# EAGLE library part XC3S1400A-FT256 (library xess)
Xilinx Spartan 3A 1400K-gate FPGA in FT256 package
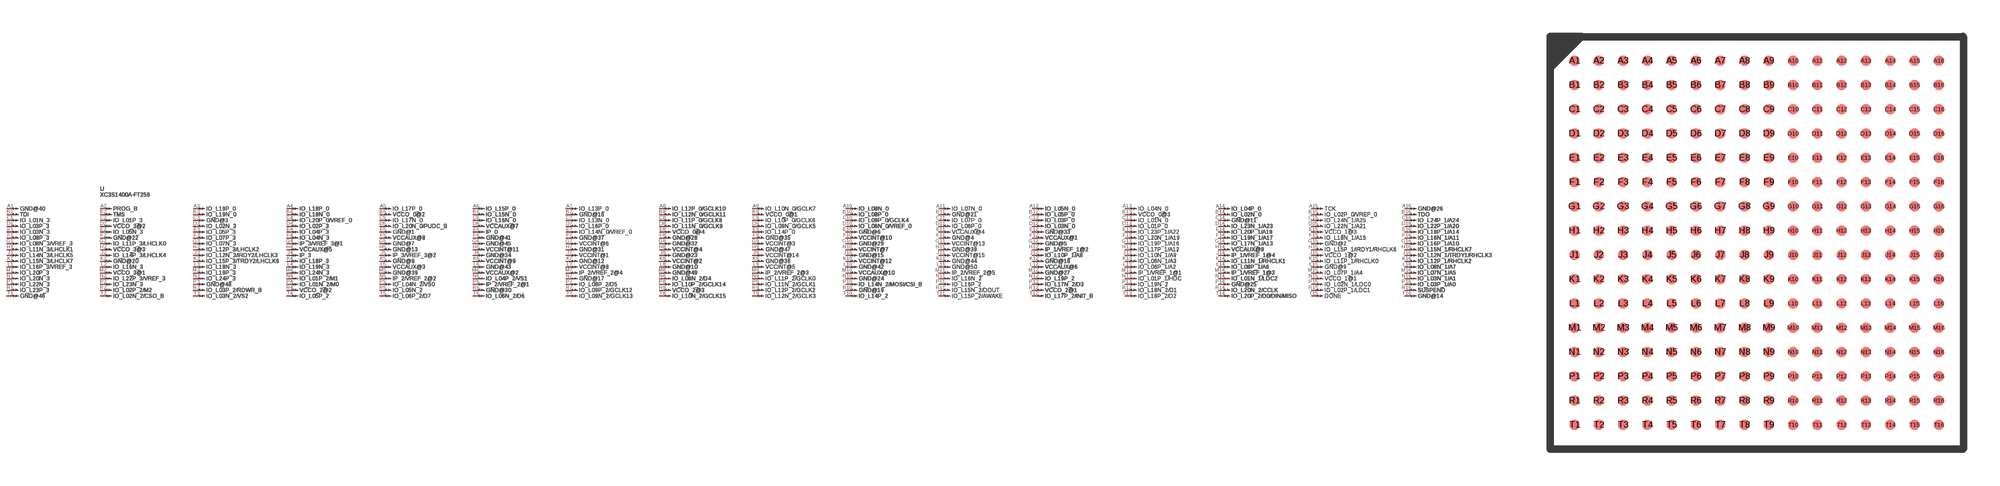
[diagram p133: symbol with the pads of XILINX-FT256; footprint XILINX-FT256]

Designator prefix U; gates PART=PV_GATE GND@40=PIN_GATE_IO PROG_B=PIN_GATE_IO IO_L19P_0=PIN_GATE_IO IO_L18P_0=PIN_GATE_IO IO_L17P_0=PIN_GATE_IO IO_L15P_0=PIN_GATE_IO IO_L13P_0=PIN_GATE_IO IO_L12P_0/GCLK10=PIN_GATE_IO IO_L10N_0/GCLK7=PIN_GATE_IO IO_L08N_0=PIN_GATE_IO IO_L07N_0=PIN_GATE_IO IO_L05N_0=PIN_GATE_IO IO_L04N_0=PIN_GATE_IO IO_L04P_0=PIN_GATE_IO TCK=PIN_GATE_IO GND@26=PIN_GATE_IO TDI=PIN_GATE_IO TMS=PIN_GATE_IO IO_L19N_0=PIN_GATE_IO IO_L18N_0=PIN_GATE_IO VCCO_0@2=PIN_GATE_IO IO_L15N_0=PIN_GATE_IO GND@16=PIN_GATE_IO IO_L12N_0/GCLK11=PIN_GATE_IO VCCO_0@1=PIN_GATE_IO IO_L08P_0=PIN_GATE_IO GND@21=PIN_GATE_IO IO_L05P_0=PIN_GATE_IO VCCO_0@3=PIN_GATE_IO IO_L02N_0=PIN_GATE_IO IO_L02P_0/VREF_0=PIN_GATE_IO TDO=PIN_GATE_IO IO_L01N_3=PIN_GATE_IO IO_L01P_3=PIN_GATE_IO GND@3=PIN_GATE_IO IO_L20P_0/VREF_0=PIN_GATE_IO IO_L17N_0=PIN_GATE_IO IO_L16N_0=PIN_GATE_IO IO_L13N_0=PIN_GATE_IO IO_L11P_0/GCLK8=PIN_GATE_IO IO_L10P_0/GCLK6=PIN_GATE_IO IO_L09P_0/GCLK4=PIN_GATE_IO IO_L07P_0=PIN_GATE_IO IO_L03P_0=PIN_GATE_IO IO_L01N_0=PIN_GATE_IO GND@11=PIN_GATE_IO IO_L24N_1/A25=PIN_GATE_IO IO_L24P_1/A24=PIN_GATE_IO IO_L03P_3=PIN_GATE_IO VCCO_3@2=PIN_GATE_IO IO_L02N_3=PIN_GATE_IO IO_L02P_3=PIN_GATE_IO IO_L20N_0/PUDC_B=PIN_GATE_IO VCCAUX@7=PIN_GATE_IO IO_L16P_0=PIN_GATE_IO IO_L11N_0/GCLK9=PIN_GATE_IO IO_L09N_0/GCLK5=PIN_GATE_IO IO_L06N_0/VREF_0=PIN_GATE_IO IO_L06P_0=PIN_GATE_IO IO_L03N_0=PIN_GATE_IO IO_L01P_0=PIN_GATE_IO IO_L23N_1/A23=PIN_GATE_IO IO_L22N_1/A21=PIN_GATE_IO IO_L22P_1/A20=PIN_GATE_IO IO_L03N_3=PIN_GATE_IO IO_L05N_3=PIN_GATE_IO IO_L05P_3=PIN_GATE_IO IO_L04P_3=PIN_GATE_IO GND@1=PIN_GATE_IO IP_0=PIN_GATE_IO IO_L14N_0/VREF_0=PIN_GATE_IO VCCO_0@4=PIN_GATE_IO IO_L14P_0=PIN_GATE_IO GND@6=PIN_GATE_IO VCCAUX@4=PIN_GATE_IO GND@33=PIN_GATE_IO IO_L23P_1/A22=PIN_GATE_IO IO_L20P_1/A18=PIN_GATE_IO VCCO_1@3=PIN_GATE_IO IO_L18P_1/A14=PIN_GATE_IO IO_L08P_3=PIN_GATE_IO GND@22=PIN_GATE_IO IO_L07P_3=PIN_GATE_IO IO_L04N_3=PIN_GATE_IO VCCAUX@8=PIN_GATE_IO GND@41=PIN_GATE_IO GND@37=PIN_GATE_IO GND@28=PIN_GATE_IO GND@35=PIN_GATE_IO VCCINT@10=PIN_GATE_IO GND@4=PIN_GATE_IO VCCAUX@1=PIN_GATE_IO IO_L20N_1/A19=PIN_GATE_IO IO_L19N_1/A17=PIN_GATE_IO IO_L18N_1/A15=PIN_GATE_IO IO_L16N_1/A11=PIN_GATE_IO IO_L08N_3/VREF_3=PIN_GATE_IO IO_L11P_3/LHCLK0=PIN_GATE_IO IO_L07N_3=PIN_GATE_IO IP_3/VREF_3@1=PIN_GATE_IO GND@7=PIN_GATE_IO GND@45=PIN_GATE_IO VCCINT@6=PIN_GATE_IO GND@32=PIN_GATE_IO VCCINT@3=PIN_GATE_IO GND@29=PIN_GATE_IO VCCINT@13=PIN_GATE_IO GND@5=PIN_GATE_IO IO_L19P_1/A16=PIN_GATE_IO IO_L17N_1/A13=PIN_GATE_IO GND@2=PIN_GATE_IO IO_L16P_1/A10=PIN_GATE_IO IO_L11N_3/LHCLK1=PIN_GATE_IO VCCO_3@3=PIN_GATE_IO IO_L12P_3/LHCLK2=PIN_GATE_IO VCCAUX@5=PIN_GATE_IO GND@13=PIN_GATE_IO VCCINT@11=PIN_GATE_IO GND@31=PIN_GATE_IO VCCINT@4=PIN_GATE_IO GND@47=PIN_GATE_IO VCCINT@7=PIN_GATE_IO GND@38=PIN_GATE_IO IP_1/VREF_1@2=PIN_GATE_IO IO_L17P_1/A12=PIN_GATE_IO VCCAUX@9=PIN_GATE_IO IO_L15P_1/IRDY1/RHCLK6=PIN_GATE_IO IO_L15N_1/RHCLK7=PIN_GATE_IO IO_L14N_3/LHCLK5=PIN_GATE_IO IO_L14P_3/LHCLK4=PIN_GATE_IO IO_L12N_3/IRDY2/LHCLK3=PIN_GATE_IO IP_3=PIN_GATE_IO IP_3/VREF_3@2=PIN_GATE_IO GND@34=PIN_GATE_IO VCCINT@1=PIN_GATE_IO GND@23=PIN_GATE_IO VCCINT@14=PIN_GATE_IO GND@15=PIN_GATE_IO VCCINT@15=PIN_GATE_IO IO_L10P_1/A8=PIN_GATE_IO IO_L10N_1/A9=PIN_GATE_IO IP_1/VREF_1@4=PIN_GATE_IO VCCO_1@2=PIN_GATE_IO IO_L12N_1/TRDY1/RHCLK3=PIN_GATE_IO IO_L15N_3/LHCLK7=PIN_GATE_IO GND@20=PIN_GATE_IO IO_L15P_3/TRDY2/LHCLK6=PIN_GATE_IO IO_L18P_3=PIN_GATE_IO GND@8=PIN_GATE_IO VCCINT@9=PIN_GATE_IO GND@12=PIN_GATE_IO VCCINT@2=PIN_GATE_IO GND@36=PIN_GATE_IO VCCINT@12=PIN_GATE_IO GND@44=PIN_GATE_IO GND@18=PIN_GATE_IO IO_L06N_1/A3=PIN_GATE_IO IO_L11N_1/RHCLK1=PIN_GATE_IO IO_L11P_1/RHCLK0=PIN_GATE_IO IO_L12P_1/RHCLK2=PIN_GATE_IO IO_L16P_3/VREF_3=PIN_GATE_IO IO_L16N_3=PIN_GATE_IO IO_L18N_3=PIN_GATE_IO IO_L19N_3=PIN_GATE_IO VCCAUX@3=PIN_GATE_IO GND@43=PIN_GATE_IO VCCINT@8=PIN_GATE_IO GND@10=PIN_GATE_IO VCCINT@5=PIN_GATE_IO GND@42=PIN_GATE_IO GND@50=PIN_GATE_IO VCCAUX@6=PIN_GATE_IO IO_L06P_1/A2=PIN_GATE_IO IO_L08P_1/A6=PIN_GATE_IO GND@9=PIN_GATE_IO IO_L08N_1/A7=PIN_GATE_IO IO_L20P_3=PIN_GATE_IO VCCO_3@1=PIN_GATE_IO IO_L19P_3=PIN_GATE_IO IO_L24N_3=PIN_GATE_IO GND@39=PIN_GATE_IO VCCAUX@2=PIN_GATE_IO IP_2/VREF_2@4=PIN_GATE_IO GND@49=PIN_GATE_IO IP_2/VREF_2@3=PIN_GATE_IO VCCAUX@10=PIN_GATE_IO IP_2/VREF_2@5=PIN_GATE_IO GND@27=PIN_GATE_IO IP_1/VREF_1@1=PIN_GATE_IO IP_1/VREF_1@3=PIN_GATE_IO IO_L07P_1/A4=PIN_GATE_IO IO_L07N_1/A5=PIN_GATE_IO IO_L20N_3=PIN_GATE_IO IO_L22P_3/VREF_3=PIN_GATE_IO IO_L24P_3=PIN_GATE_IO IO_L01P_2/M1=PIN_GATE_IO IP_2/VREF_2@2=PIN_GATE_IO IO_L04P_2/VS1=PIN_GATE_IO GND@17=PIN_GATE_IO IO_L08N_2/D4=PIN_GATE_IO IO_L11P_2/GCLK0=PIN_GATE_IO GND@24=PIN_GATE_IO IO_L16N_2=PIN_GATE_IO IO_L19P_2=PIN_GATE_IO IO_L01P_1/HDC=PIN_GATE_IO IO_L01N_1/LDC2=PIN_GATE_IO VCCO_1@1=PIN_GATE_IO IO_L03N_1/A1=PIN_GATE_IO IO_L22N_3=PIN_GATE_IO IO_L23N_3=PIN_GATE_IO GND@48=PIN_GATE_IO IO_L01N_2/M0=PIN_GATE_IO IO_L04N_2/VS0=PIN_GATE_IO IP_2/VREF_2@1=PIN_GATE_IO IO_L08P_2/D5=PIN_GATE_IO IO_L10P_2/GCLK14=PIN_GATE_IO IO_L11N_2/GCLK1=PIN_GATE_IO IO_L14N_2/MOSI/CSI_B=PIN_GATE_IO IO_L16P_2=PIN_GATE_IO IO_L17N_2/D3=PIN_GATE_IO IO_L19N_2=PIN_GATE_IO GND@25=PIN_GATE_IO IO_L02N_1/LDC0=PIN_GATE_IO IO_L03P_1/A0=PIN_GATE_IO IO_L23P_3=PIN_GATE_IO IO_L02P_2/M2=PIN_GATE_IO IO_L03P_2/RDWR_B=PIN_GATE_IO VCCO_2@2=PIN_GATE_IO IO_L05N_2=PIN_GATE_IO GND@30=PIN_GATE_IO IO_L09P_2/GCLK12=PIN_GATE_IO VCCO_2@3=PIN_GATE_IO IO_L12P_2/GCLK2=PIN_GATE_IO GND@19=PIN_GATE_IO IO_L15N_2/DOUT=PIN_GATE_IO VCCO_2@1=PIN_GATE_IO IO_L18N_2/D1=PIN_GATE_IO IO_L20N_2/CCLK=PIN_GATE_IO IO_L02P_1/LDC1=PIN_GATE_IO SUSPEND=PIN_GATE_IO GND@46=PIN_GATE_IO IO_L02N_2/CSO_B=PIN_GATE_IO IO_L03N_2/VS2=PIN_GATE_IO IO_L05P_2=PIN_GATE_IO IO_L06P_2/D7=PIN_GATE_IO IO_L06N_2/D6=PIN_GATE_IO IO_L09N_2/GCLK13=PIN_GATE_IO IO_L10N_2/GCLK15=PIN_GATE_IO IO_L12N_2/GCLK3=PIN_GATE_IO IO_L14P_2=PIN_GATE_IO IO_L15P_2/AWAKE=PIN_GATE_IO IO_L17P_2/INIT_B=PIN_GATE_IO IO_L18P_2/D2=PIN_GATE_IO IO_L20P_2/D0/DIN/MISO=PIN_GATE_IO DONE=PIN_GATE_IO GND@14=PIN_GATE_IO

## XC3S1400A-FT256  [XILINX-FT256]
A1  GND@40:1
A2  PROG_B:1
A3  IO_L19P_0:1
A4  IO_L18P_0:1
A5  IO_L17P_0:1
A6  IO_L15P_0:1
A7  IO_L13P_0:1
A8  IO_L12P_0/GCLK10:1
A9  IO_L10N_0/GCLK7:1
A10  IO_L08N_0:1
A11  IO_L07N_0:1
A12  IO_L05N_0:1
A13  IO_L04N_0:1
A14  IO_L04P_0:1
A15  TCK:1
A16  GND@26:1
B1  TDI:1
B2  TMS:1
B3  IO_L19N_0:1
B4  IO_L18N_0:1
B5  VCCO_0@2:1
B6  IO_L15N_0:1
B7  GND@16:1
B8  IO_L12N_0/GCLK11:1
B9  VCCO_0@1:1
B10  IO_L08P_0:1
B11  GND@21:1
B12  IO_L05P_0:1
B13  VCCO_0@3:1
B14  IO_L02N_0:1
B15  IO_L02P_0/VREF_0:1
B16  TDO:1
C1  IO_L01N_3:1
C2  IO_L01P_3:1
C3  GND@3:1
C4  IO_L20P_0/VREF_0:1
C5  IO_L17N_0:1
C6  IO_L16N_0:1
C7  IO_L13N_0:1
C8  IO_L11P_0/GCLK8:1
C9  IO_L10P_0/GCLK6:1
C10  IO_L09P_0/GCLK4:1
C11  IO_L07P_0:1
C12  IO_L03P_0:1
C13  IO_L01N_0:1
C14  GND@11:1
C15  IO_L24N_1/A25:1
C16  IO_L24P_1/A24:1
D1  IO_L03P_3:1
D2  VCCO_3@2:1
D3  IO_L02N_3:1
D4  IO_L02P_3:1
D5  IO_L20N_0/PUDC_B:1
D6  VCCAUX@7:1
D7  IO_L16P_0:1
D8  IO_L11N_0/GCLK9:1
D9  IO_L09N_0/GCLK5:1
D10  IO_L06N_0/VREF_0:1
D11  IO_L06P_0:1
D12  IO_L03N_0:1
D13  IO_L01P_0:1
D14  IO_L23N_1/A23:1
D15  IO_L22N_1/A21:1
D16  IO_L22P_1/A20:1
E1  IO_L03N_3:1
E2  IO_L05N_3:1
E3  IO_L05P_3:1
E4  IO_L04P_3:1
E5  GND@1:1
E6  IP_0:1
E7  IO_L14N_0/VREF_0:1
E8  VCCO_0@4:1
E9  IO_L14P_0:1
E10  GND@6:1
E11  VCCAUX@4:1
E12  GND@33:1
E13  IO_L23P_1/A22:1
E14  IO_L20P_1/A18:1
E15  VCCO_1@3:1
E16  IO_L18P_1/A14:1
F1  IO_L08P_3:1
F2  GND@22:1
F3  IO_L07P_3:1
F4  IO_L04N_3:1
F5  VCCAUX@8:1
F6  GND@41:1
F7  GND@37:1
F8  GND@28:1
F9  GND@35:1
F10  VCCINT@10:1
F11  GND@4:1
F12  VCCAUX@1:1
F13  IO_L20N_1/A19:1
F14  IO_L19N_1/A17:1
F15  IO_L18N_1/A15:1
F16  IO_L16N_1/A11:1
G1  IO_L08N_3/VREF_3:1
G2  IO_L11P_3/LHCLK0:1
G3  IO_L07N_3:1
G4  IP_3/VREF_3@1:1
G5  GND@7:1
G6  GND@45:1
G7  VCCINT@6:1
G8  GND@32:1
G9  VCCINT@3:1
G10  GND@29:1
G11  VCCINT@13:1
G12  GND@5:1
G13  IO_L19P_1/A16:1
G14  IO_L17N_1/A13:1
G15  GND@2:1
G16  IO_L16P_1/A10:1
H1  IO_L11N_3/LHCLK1:1
H2  VCCO_3@3:1
H3  IO_L12P_3/LHCLK2:1
H4  VCCAUX@5:1
H5  GND@13:1
H6  VCCINT@11:1
H7  GND@31:1
H8  VCCINT@4:1
H9  GND@47:1
H10  VCCINT@7:1
H11  GND@38:1
H12  IP_1/VREF_1@2:1
H13  IO_L17P_1/A12:1
H14  VCCAUX@9:1
H15  IO_L15P_1/IRDY1/RHCLK6:1
H16  IO_L15N_1/RHCLK7:1
J1  IO_L14N_3/LHCLK5:1
J2  IO_L14P_3/LHCLK4:1
J3  IO_L12N_3/IRDY2/LHCLK3:1
J4  IP_3:1
J5  IP_3/VREF_3@2:1
J6  GND@34:1
J7  VCCINT@1:1
J8  GND@23:1
J9  VCCINT@14:1
J10  GND@15:1
J11  VCCINT@15:1
J12  IO_L10P_1/A8:1
J13  IO_L10N_1/A9:1
J14  IP_1/VREF_1@4:1
J15  VCCO_1@2:1
J16  IO_L12N_1/TRDY1/RHCLK3:1
K1  IO_L15N_3/LHCLK7:1
K2  GND@20:1
K3  IO_L15P_3/TRDY2/LHCLK6:1
K4  IO_L18P_3:1
K5  GND@8:1
K6  VCCINT@9:1
K7  GND@12:1
K8  VCCINT@2:1
K9  GND@36:1
K10  VCCINT@12:1
K11  GND@44:1
K12  GND@18:1
K13  IO_L06N_1/A3:1
K14  IO_L11N_1/RHCLK1:1
K15  IO_L11P_1/RHCLK0:1
K16  IO_L12P_1/RHCLK2:1
L1  IO_L16P_3/VREF_3:1
L2  IO_L16N_3:1
L3  IO_L18N_3:1
L4  IO_L19N_3:1
L5  VCCAUX@3:1
L6  GND@43:1
L7  VCCINT@8:1
L8  GND@10:1
L9  VCCINT@5:1
L10  GND@42:1
L11  GND@50:1
L12  VCCAUX@6:1
L13  IO_L06P_1/A2:1
L14  IO_L08P_1/A6:1
L15  GND@9:1
L16  IO_L08N_1/A7:1
M1  IO_L20P_3:1
M2  VCCO_3@1:1
M3  IO_L19P_3:1
M4  IO_L24N_3:1
M5  GND@39:1
M6  VCCAUX@2:1
M7  IP_2/VREF_2@4:1
M8  GND@49:1
M9  IP_2/VREF_2@3:1
M10  VCCAUX@10:1
M11  IP_2/VREF_2@5:1
M12  GND@27:1
M13  IP_1/VREF_1@1:1
M14  IP_1/VREF_1@3:1
M15  IO_L07P_1/A4:1
M16  IO_L07N_1/A5:1
N1  IO_L20N_3:1
N2  IO_L22P_3/VREF_3:1
N3  IO_L24P_3:1
N4  IO_L01P_2/M1:1
N5  IP_2/VREF_2@2:1
N6  IO_L04P_2/VS1:1
N7  GND@17:1
N8  IO_L08N_2/D4:1
N9  IO_L11P_2/GCLK0:1
N10  GND@24:1
N11  IO_L16N_2:1
N12  IO_L19P_2:1
N13  IO_L01P_1/HDC:1
N14  IO_L01N_1/LDC2:1
N15  VCCO_1@1:1
N16  IO_L03N_1/A1:1
P1  IO_L22N_3:1
P2  IO_L23N_3:1
P3  GND@48:1
P4  IO_L01N_2/M0:1
P5  IO_L04N_2/VS0:1
P6  IP_2/VREF_2@1:1
P7  IO_L08P_2/D5:1
P8  IO_L10P_2/GCLK14:1
P9  IO_L11N_2/GCLK1:1
P10  IO_L14N_2/MOSI/CSI_B:1
P11  IO_L16P_2:1
P12  IO_L17N_2/D3:1
P13  IO_L19N_2:1
P14  GND@25:1
P15  IO_L02N_1/LDC0:1
P16  IO_L03P_1/A0:1
R1  IO_L23P_3:1
R2  IO_L02P_2/M2:1
R3  IO_L03P_2/RDWR_B:1
R4  VCCO_2@2:1
R5  IO_L05N_2:1
R6  GND@30:1
R7  IO_L09P_2/GCLK12:1
R8  VCCO_2@3:1
R9  IO_L12P_2/GCLK2:1
R10  GND@19:1
R11  IO_L15N_2/DOUT:1
R12  VCCO_2@1:1
R13  IO_L18N_2/D1:1
R14  IO_L20N_2/CCLK:1
R15  IO_L02P_1/LDC1:1
R16  SUSPEND:1
T1  GND@46:1
T2  IO_L02N_2/CSO_B:1
T3  IO_L03N_2/VS2:1
T4  IO_L05P_2:1
T5  IO_L06P_2/D7:1
T6  IO_L06N_2/D6:1
T7  IO_L09N_2/GCLK13:1
T8  IO_L10N_2/GCLK15:1
T9  IO_L12N_2/GCLK3:1
T10  IO_L14P_2:1
T11  IO_L15P_2/AWAKE:1
T12  IO_L17P_2/INIT_B:1
T13  IO_L18P_2/D2:1
T14  IO_L20P_2/D0/DIN/MISO:1
T15  DONE:1
T16  GND@14:1

## Footprint XILINX-FT256 (pad centres in mm)
Xilinx 256-Ball Fine-Pitch Thin BGA Package
smd 0.4 x 0.4: A1 0,0; A2 1,0; A3 2,0; A4 3,0; A5 4,0; A6 5,0; A7 6,0; A8 7,0; A9 8,0; A10 9,0; A11 10,0; A12 11,0; A13 12,0; A14 13,0; A15 14,0; A16 15,0; B1 0,-1; B2 1,-1; B3 2,-1; B4 3,-1; B5 4,-1; B6 5,-1; B7 6,-1; B8 7,-1; B9 8,-1; B10 9,-1; B11 10,-1; B12 11,-1; B13 12,-1; B14 13,-1; B15 14,-1; B16 15,-1; C1 0,-2; C2 1,-2; C3 2,-2; C4 3,-2; C5 4,-2; C6 5,-2; C7 6,-2; C8 7,-2; C9 8,-2; C10 9,-2; C11 10,-2; C12 11,-2; C13 12,-2; C14 13,-2; C15 14,-2; C16 15,-2; D1 0,-3; D2 1,-3; D3 2,-3; D4 3,-3; D5 4,-3; D6 5,-3; D7 6,-3; D8 7,-3; D9 8,-3; D10 9,-3; D11 10,-3; D12 11,-3; D13 12,-3; D14 13,-3; D15 14,-3; D16 15,-3; E1 0,-4; E2 1,-4; E3 2,-4; E4 3,-4; E5 4,-4; E6 5,-4; E7 6,-4; E8 7,-4; E9 8,-4; E10 9,-4; E11 10,-4; E12 11,-4; E13 12,-4; E14 13,-4; E15 14,-4; E16 15,-4; F1 0,-5; F2 1,-5; F3 2,-5; F4 3,-5; F5 4,-5; F6 5,-5; F7 6,-5; F8 7,-5; F9 8,-5; F10 9,-5; F11 10,-5; F12 11,-5; F13 12,-5; F14 13,-5; F15 14,-5; F16 15,-5; G1 0,-6; G2 1,-6; G3 2,-6; G4 3,-6; G5 4,-6; G6 5,-6; G7 6,-6; G8 7,-6; G9 8,-6; G10 9,-6; G11 10,-6; G12 11,-6; G13 12,-6; G14 13,-6; G15 14,-6; G16 15,-6; H1 0,-7; H2 1,-7; H3 2,-7; H4 3,-7; H5 4,-7; H6 5,-7; H7 6,-7; H8 7,-7; H9 8,-7; H10 9,-7; H11 10,-7; H12 11,-7; H13 12,-7; H14 13,-7; H15 14,-7; H16 15,-7; J1 0,-8; J2 1,-8; J3 2,-8; J4 3,-8; J5 4,-8; J6 5,-8; J7 6,-8; J8 7,-8; J9 8,-8; J10 9,-8; J11 10,-8; J12 11,-8; J13 12,-8; J14 13,-8; J15 14,-8; J16 15,-8; K1 0,-9; K2 1,-9; K3 2,-9; K4 3,-9; K5 4,-9; K6 5,-9; K7 6,-9; K8 7,-9; K9 8,-9; K10 9,-9; K11 10,-9; K12 11,-9; K13 12,-9; K14 13,-9; K15 14,-9; K16 15,-9; L1 0,-10; L2 1,-10; L3 2,-10; L4 3,-10; L5 4,-10; L6 5,-10; L7 6,-10; L8 7,-10; L9 8,-10; L10 9,-10; L11 10,-10; L12 11,-10; L13 12,-10; L14 13,-10; L15 14,-10; L16 15,-10; M1 0,-11; M2 1,-11; M3 2,-11; M4 3,-11; M5 4,-11; M6 5,-11; M7 6,-11; M8 7,-11; M9 8,-11; M10 9,-11; M11 10,-11; M12 11,-11; M13 12,-11; M14 13,-11; M15 14,-11; M16 15,-11; N1 0,-12; N2 1,-12; N3 2,-12; N4 3,-12; N5 4,-12; N6 5,-12; N7 6,-12; N8 7,-12; N9 8,-12; N10 9,-12; N11 10,-12; N12 11,-12; N13 12,-12; N14 13,-12; N15 14,-12; N16 15,-12; P1 0,-13; P2 1,-13; P3 2,-13; P4 3,-13; P5 4,-13; P6 5,-13; P7 6,-13; P8 7,-13; P9 8,-13; P10 9,-13; P11 10,-13; P12 11,-13; P13 12,-13; P14 13,-13; P15 14,-13; P16 15,-13; R1 0,-14; R2 1,-14; R3 2,-14; R4 3,-14; R5 4,-14; R6 5,-14; R7 6,-14; R8 7,-14; R9 8,-14; R10 9,-14; R11 10,-14; R12 11,-14; R13 12,-14; R14 13,-14; R15 14,-14; R16 15,-14; T1 0,-15; T2 1,-15; T3 2,-15; T4 3,-15; T5 4,-15; T6 5,-15; T7 6,-15; T8 7,-15; T9 8,-15; T10 9,-15; T11 10,-15; T12 11,-15; T13 12,-15; T14 13,-15; T15 14,-15; T16 15,-15